# Altium integrated library XL6009.IntLib: 1 symbol
Pins are listed as number, name and electrical type; pins without a type are passive.

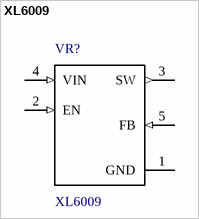
[diagram p0: symbol XL6009]

## XL6009
designator VR?
The XL6009 regulator is a wide input range, current mode, DC/DC converter which is capable of generating either positive or negative output voltages.; MF: XLSEMI; Package: Package Analog Devices; MP: XL6009; Price: None; Availability: Unavailable; SnapEDA_Link: https://www.snapeda.com/parts/XL6009/XLSEMI/view-part/3211005/?ref=snap; Value: *
footprint *DPAK170P1435X465-6N
pins: 1 GND (power), 2 EN (in), 3 SW (out), 4 VIN (in), 5 FB (in)